# Altium footprint library SOP127P800X250-16N_DIP_SWITCH_COPAL.PcbLib: 1 footprints
Each footprint in its own frame and in the unit in brackets; x right, y up, seen from the top. Pads: shape width x height; smd on the part's side, far side on the other; paste and mask are expansions set on the pad; w line width, h text height; cw(c..) or ccw(c..) is an arc to the next point about the centre after c.
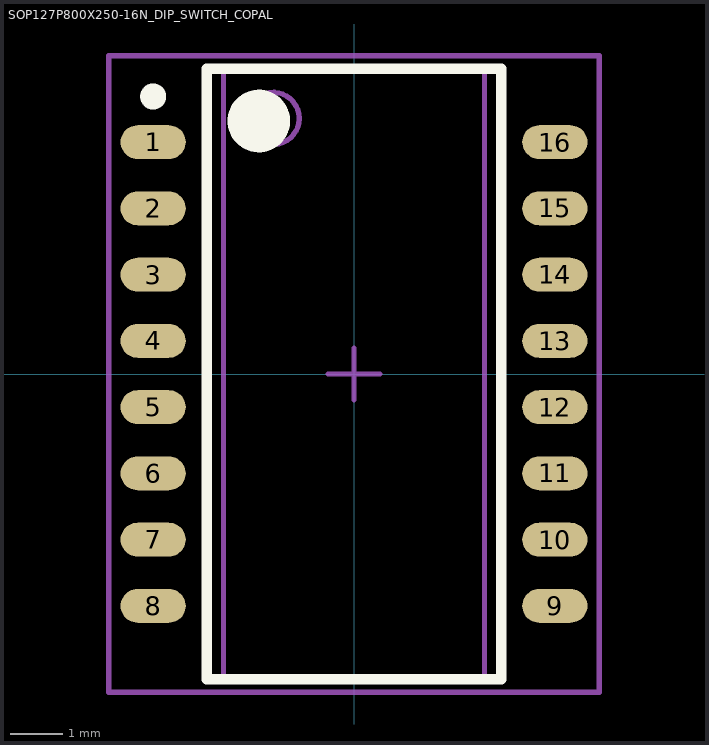
[diagram p0: the footprint, top view; thin cyan lines are the x and y axes]

## SOP127P800X250-16N_DIP_SWITCH_COPAL [mm] "SOP, 16-Leads, Body 11.7x5.0mm (max), Pitch 1.27mm, IPC Medium Density"
height 2.5
pads (16):
  oval 1.25x0.65 smd: 1(-3.85,4.445) 2(-3.85,3.175) 3(-3.85,1.905) 4(-3.85,0.635) 5(-3.85,-0.635) 6(-3.85,-1.905) 7(-3.85,-3.175) 8(-3.85,-4.445) 9(3.85,-4.445) 10(3.85,-3.175) 11(3.85,-1.905) 12(3.85,-0.635) 13(3.85,0.635) 14(3.85,1.905) 15(3.85,3.175) 16(3.85,4.445)
Top Overlay:
  circle w0.25: c-3.85,5.32 r0.125
  circle w0.6: c-1.825,4.85 r0.3
  lines w0.2: -2.825,-5.85 -2.825,5.85 2.825,5.85 2.825,-5.85 -2.825,-5.85
Mechanical 13:
  circle w0.1: c-1.55,4.9 r0.5
  lines w0.1: -2.5,-5.85 -2.5,5.85 2.5,5.85 2.5,-5.85 -2.5,-5.85
Mechanical 15:
  lines w0.1: -0.5,0 0.5,0 ; 0,-0.5 0,0.5 ; -4.7,-6.1 -4.7,6.1 4.7,6.1 4.7,-6.1 -4.7,-6.1
3D body: height 2.5, standoff 0.15, extent -2.5,-5.85 2.5,5.85